# EAGLE library part MICROBUILDER_HEADER-1X13 (library AdafruitCobbler)
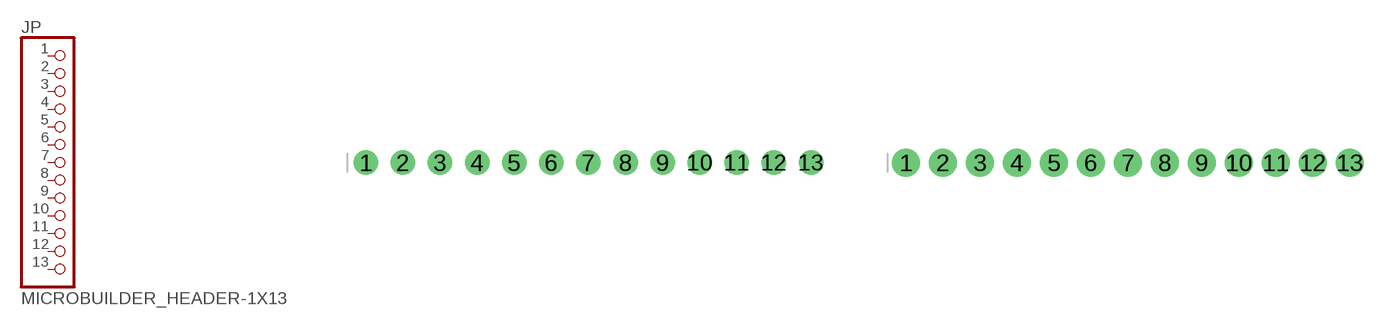
[diagram p0: symbol with the pads of MICROBUILDER_1X13_ROUND_70; footprints MICROBUILDER_1X13_ROUND_70, MICROBUILDER_1X13_ROUND_76MIL]

Designator prefix JP

## MICROBUILDER_HEADER-1X13  [MICROBUILDER_1X13_ROUND_70]
1  1  pas
2  2  pas
3  3  pas
4  4  pas
5  5  pas
6  6  pas
7  7  pas
8  8  pas
9  9  pas
10  10  pas
11  11  pas
12  12  pas
13  13  pas

## MICROBUILDER_HEADER-1X1380MIL  [MICROBUILDER_1X13_ROUND_76MIL]
Pads as for MICROBUILDER_1X13_ROUND_70

## Footprint MICROBUILDER_1X13_ROUND_70 (pad centres in mm)
drill 1 pad 1.676: 1 -15.24,0; 2 -12.7,0; 3 -10.16,0; 4 -7.62,0; 5 -5.08,0; 6 -2.54,0; 7 0,0; 8 2.54,0; 9 5.08,0; 10 7.62,0; 11 10.16,0; 12 12.7,0; 13 15.24,0

## Footprint MICROBUILDER_1X13_ROUND_76MIL (pad centres in mm)
drill 1 pad 1.93: 1 -15.24,0; 2 -12.7,0; 3 -10.16,0; 4 -7.62,0; 5 -5.08,0; 6 -2.54,0; 7 0,0; 8 2.54,0; 9 5.08,0; 10 7.62,0; 11 10.16,0; 12 12.7,0; 13 15.24,0